# EAGLE library part CONNECTOR-ATX24 (library logic-supply)
CONNECTOR-ATX24 (MotherBoard)
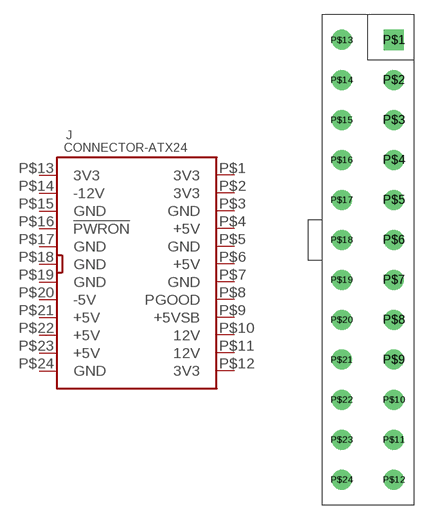
[diagram p49: symbol with the pads of CONNECTOR-ATX24; footprint CONNECTOR-ATX24]

Designator prefix J

## CONNECTOR-ATX24  [CONNECTOR-ATX24]
P$1  3V3
P$2  3V3
P$3  GND
P$4  +5V
P$5  GND
P$6  +5V
P$7  GND
P$8  PGOOD
P$9  +5VSB
P$10  12V
P$11  12V
P$12  3V3
P$13  3V3
P$14  -12V
P$15  GND
P$16  !PWRON
P$17  GND
P$18  GND
P$19  GND
P$20  -5V
P$21  +5V
P$22  +5V
P$23  +5V
P$24  GND

## Footprint CONNECTOR-ATX24 (pad centres in mm)
Connector ATX-24 MotherBoard Molex 0039281243 (digikey WM3811-ND) Updated spacing RSTP- Apr 24, 2014
drill 1.4 square: P$1 2.75,23.1
drill 1.4: P$2 2.75,18.9; P$3 2.75,14.7; P$4 2.75,10.5; P$5 2.75,6.3; P$6 2.75,2.1; P$7 2.75,-2.1; P$8 2.75,-6.3; P$9 2.75,-10.5; P$10 2.75,-14.7; P$11 2.75,-18.9; P$12 2.75,-23.1; P$13 -2.75,23.1; P$14 -2.75,18.9; P$15 -2.75,14.7; P$16 -2.75,10.5; P$17 -2.75,6.3; P$18 -2.75,2.1; P$19 -2.75,-2.1; P$20 -2.75,-6.3; P$21 -2.75,-10.5; P$22 -2.75,-14.7; P$23 -2.75,-18.9; P$24 -2.75,-23.1